# EAGLE library part LORA_RA-02_BREAKOUT (library Lora_SX1267_Ra-02_Breakout)
Ai-Thinker LoRa Ra-02 Adapter / Breakout Board 16-pin dual row layout matching photo.
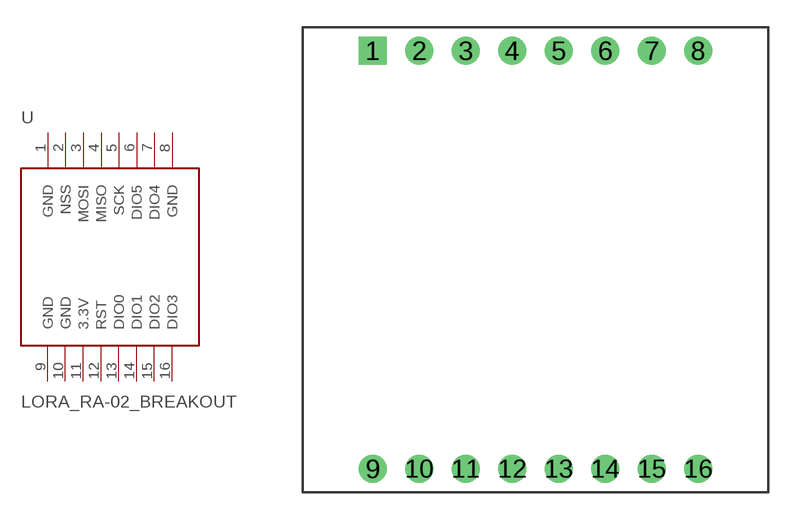
[diagram p0: symbol with the pads of LORA_RA02_DIP16; footprint LORA_RA02_DIP16]

Designator prefix U

## LORA_RA-02_BREAKOUT  [LORA_RA02_DIP16]
1  GND  pwr
2  NSS
3  MOSI
4  MISO
5  SCK
6  DIO5
7  DIO4
8  GND  pwr
9  GND  pwr
10  GND  pwr
11  3.3V  pwr
12  RST
13  DIO0
14  DIO1
15  DIO2
16  DIO3

## Footprint LORA_RA02_DIP16 (pad centres in mm)
LoRa Ra-02 Breakout Board (DIP-16) Board dimensions: 25.4mm x 25.4mm Pin Pitch: 2.54mm, Row Pitch: 22.86mm
drill 1 square: 1 -8.89,11.43
drill 1: 2 -6.35,11.43; 3 -3.81,11.43; 4 -1.27,11.43; 5 1.27,11.43; 6 3.81,11.43; 7 6.35,11.43; 8 8.89,11.43; 9 -8.89,-11.43; 10 -6.35,-11.43; 11 -3.81,-11.43; 12 -1.27,-11.43; 13 1.27,-11.43; 14 3.81,-11.43; 15 6.35,-11.43; 16 8.89,-11.43